# Altium footprint library Res.PcbLib: 5 footprints
Each footprint in its own frame and in the unit in brackets; x right, y up, seen from the top. Pads: shape width x height; smd on the part's side, far side on the other; paste and mask are expansions set on the pad; w line width, h text height; cw(c..) or ccw(c..) is an arc to the next point about the centre after c.
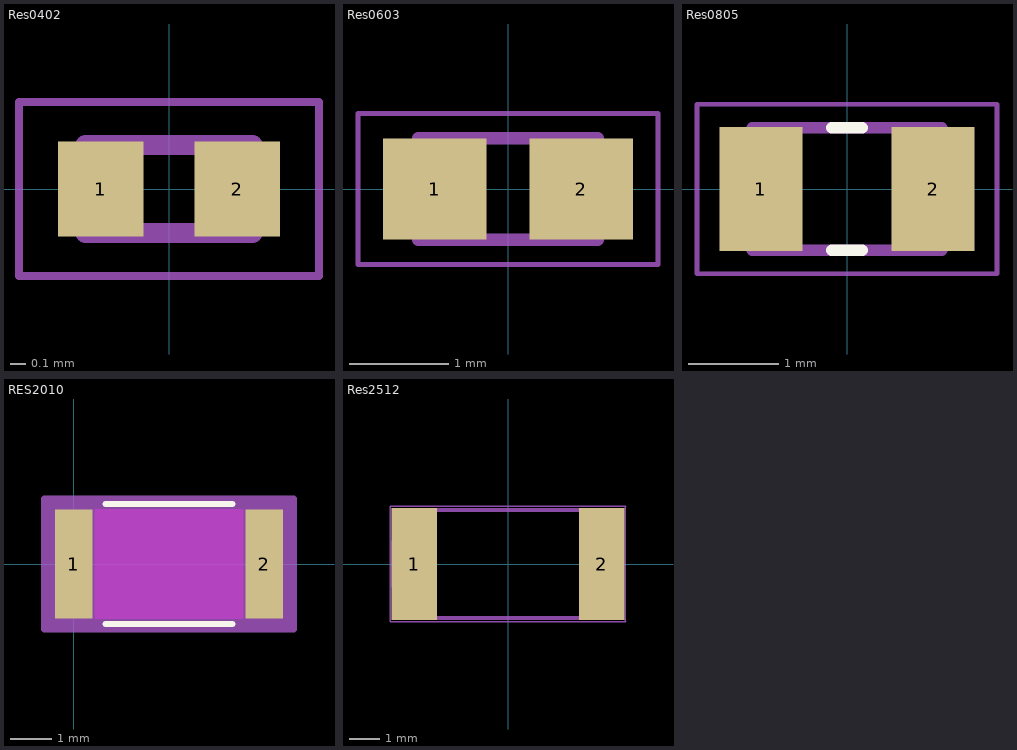
[diagram p0: the footprints below, top view; thin cyan lines are the x and y axes]

## Res0402 [mm]
pads (2):
  rect 0.54x0.6 smd: 1(-0.432,0) 2(0.432,0)
Mechanical 13:
  lines w0.127: -0.53,-0.28 0.53,-0.28 0.53,0.28 -0.53,0.28 -0.53,-0.28
Mechanical 15:
  lines w0.05: -0.95,-0.55 0.95,-0.55 0.95,0.55 -0.95,0.55 -0.95,-0.55
3D body: height 0.35, standoff 0, extent -0.45,-0.25 0.45,0.25
3D body: height 0.35, standoff 0, extent 0.45,-0.25 0.575,0.25
3D body: height 0.35, standoff 0, extent -0.575,-0.25 -0.45,0.25

## Res0603 [mm]
pads (2):
  rect 1.04x1.02 smd: 1(-0.735,0) 2(0.735,0)
Mechanical 13:
  lines w0.127: -0.9,-0.51 -0.9,0.51 0.9,0.51 0.9,-0.51 -0.9,-0.51
Mechanical 15:
  lines w0.05: -1.508,-0.761 -1.508,0.761 1.508,0.761 1.508,-0.761 -1.508,-0.761
3D body "step_temp.STEP": height 0.55, standoff 0, extent -0.8,-0.4 0.8,0.4

## Res0805 [mm]
pads (2):
  rect 0.92x1.38 smd: 1(-0.955,0) 2(0.955,0)
Top Overlay:
  lines w0.127: -0.17,-0.68 0.17,-0.68 ; -0.17,0.68 0.17,0.68
Mechanical 13:
  lines w0.127: -1.05,-0.68 -1.05,0.68 1.05,0.68 1.05,-0.68 -1.05,-0.68
Mechanical 15:
  lines w0.05: -1.665,-0.94 -1.665,0.94 1.665,0.94 1.665,-0.94 -1.665,-0.94
3D body "step_temp.STEP": height 0.6, standoff 0, extent -1,-0.625 1,0.625

## RES2010 [mil]
pads (2):
  rect 36x104 smd paste+0 mask+0: 1(0,0) 2(181,0)
Top Layer keep-out:
  region: 20,-50 20,50 161,50 161,-50
Top Overlay:
  lines w6: 30.11,-57 150.89,-57 ; 30.11,57 150.89,57
Keep-Out Layer:
  region: 20,-52 20,52 161,52 161,-52
Mechanical 13:
  lines w1: -10,-52 -10,52 ; -10,-52 191,-52 ; -10,-52 18,-52 18,52 -10,52 ; -10,-52 -10,52 ; -10,52 191,52 ; 191,-52 191,52 ; 191,-52 191,52 ; 191,-52 163,-52 163,52 191,52
Mechanical 15:
  region: 209,-62 -28,-62 -28,62 209,62
  lines w6: -28,-62 209,-62 209,62 -28,62 -28,-62
3D body "RES_RC2010_YAG.step": height 25.98, standoff 0, extent -10.01,-52.01 191.01,52.01

## Res2512 [mm]
pads (2):
  rect 1.5x3.7 smd: 1(-3.098,0) 2(3.098,0)
Mechanical 13:
  lines w0.127: -3.263,-1.778 3.606,-1.778 3.606,1.778 -3.263,1.778 -3.263,-1.778
Mechanical 15:
  lines w0.05: -3.887,1.903 -3.887,-1.905 3.879,-1.905 ; -3.887,1.905 3.879,1.905 ; -3.871,-0.761 -3.871,0.761 ; 3.86,-1.905 3.86,1.903
3D body "STA_RMCF2512_STP.step": height 0.71, standoff 0, extent -3.251,-1.727 3.251,1.727